# Altium footprint library PCB11.PcbLib: 17 footprints (part 2 of 2)
Each footprint in its own frame and in the unit in brackets; x right, y up, seen from the top. Pads: shape width x height; smd on the part's side, far side on the other; paste and mask are expansions set on the pad; w line width, h text height; cw(c..) or ccw(c..) is an arc to the next point about the centre after c.
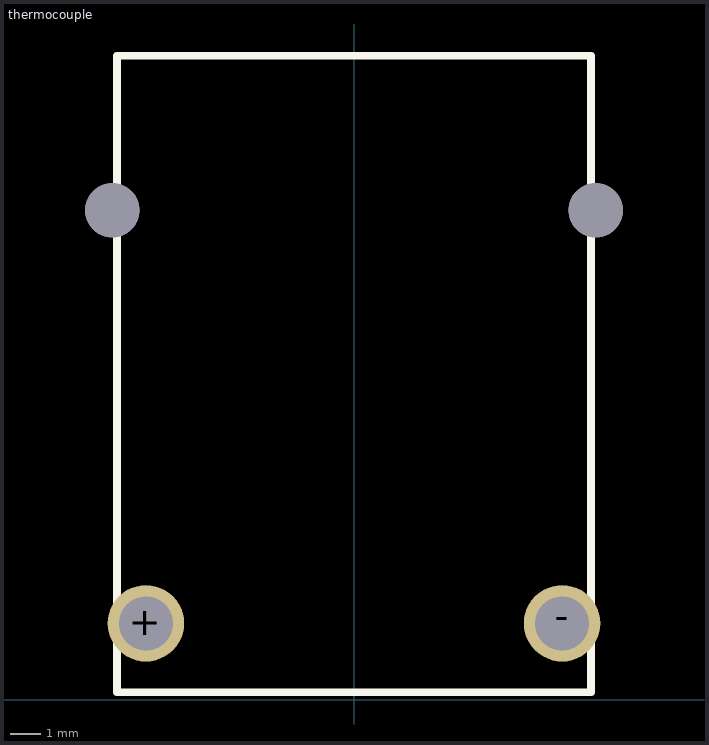
[diagram p1: the footprint, top view; thin cyan lines are the x and y axes]

## thermocouple [mm]
pads (4):
  round 2.5 / inner round 1.524 / far side round 2.5 hole 1.77: +(-6.8,2.5) -(6.8,2.5)
  round 1.77 hole 1.77: ""(-7.9,16) ""(7.9,16)
Top Overlay:
  lines w0.254: -7.75,0.25 7.75,0.25 7.75,21.05 -7.75,21.05 -7.75,0.25